# Altium footprint library EP3C25.PcbLib: 25 footprints (part 1 of 2)
Each footprint in its own frame and in the unit in brackets; x right, y up, seen from the top. Pads: shape width x height; smd on the part's side, far side on the other; paste and mask are expansions set on the pad; w line width, h text height; cw(c..) or ccw(c..) is an arc to the next point about the centre after c.
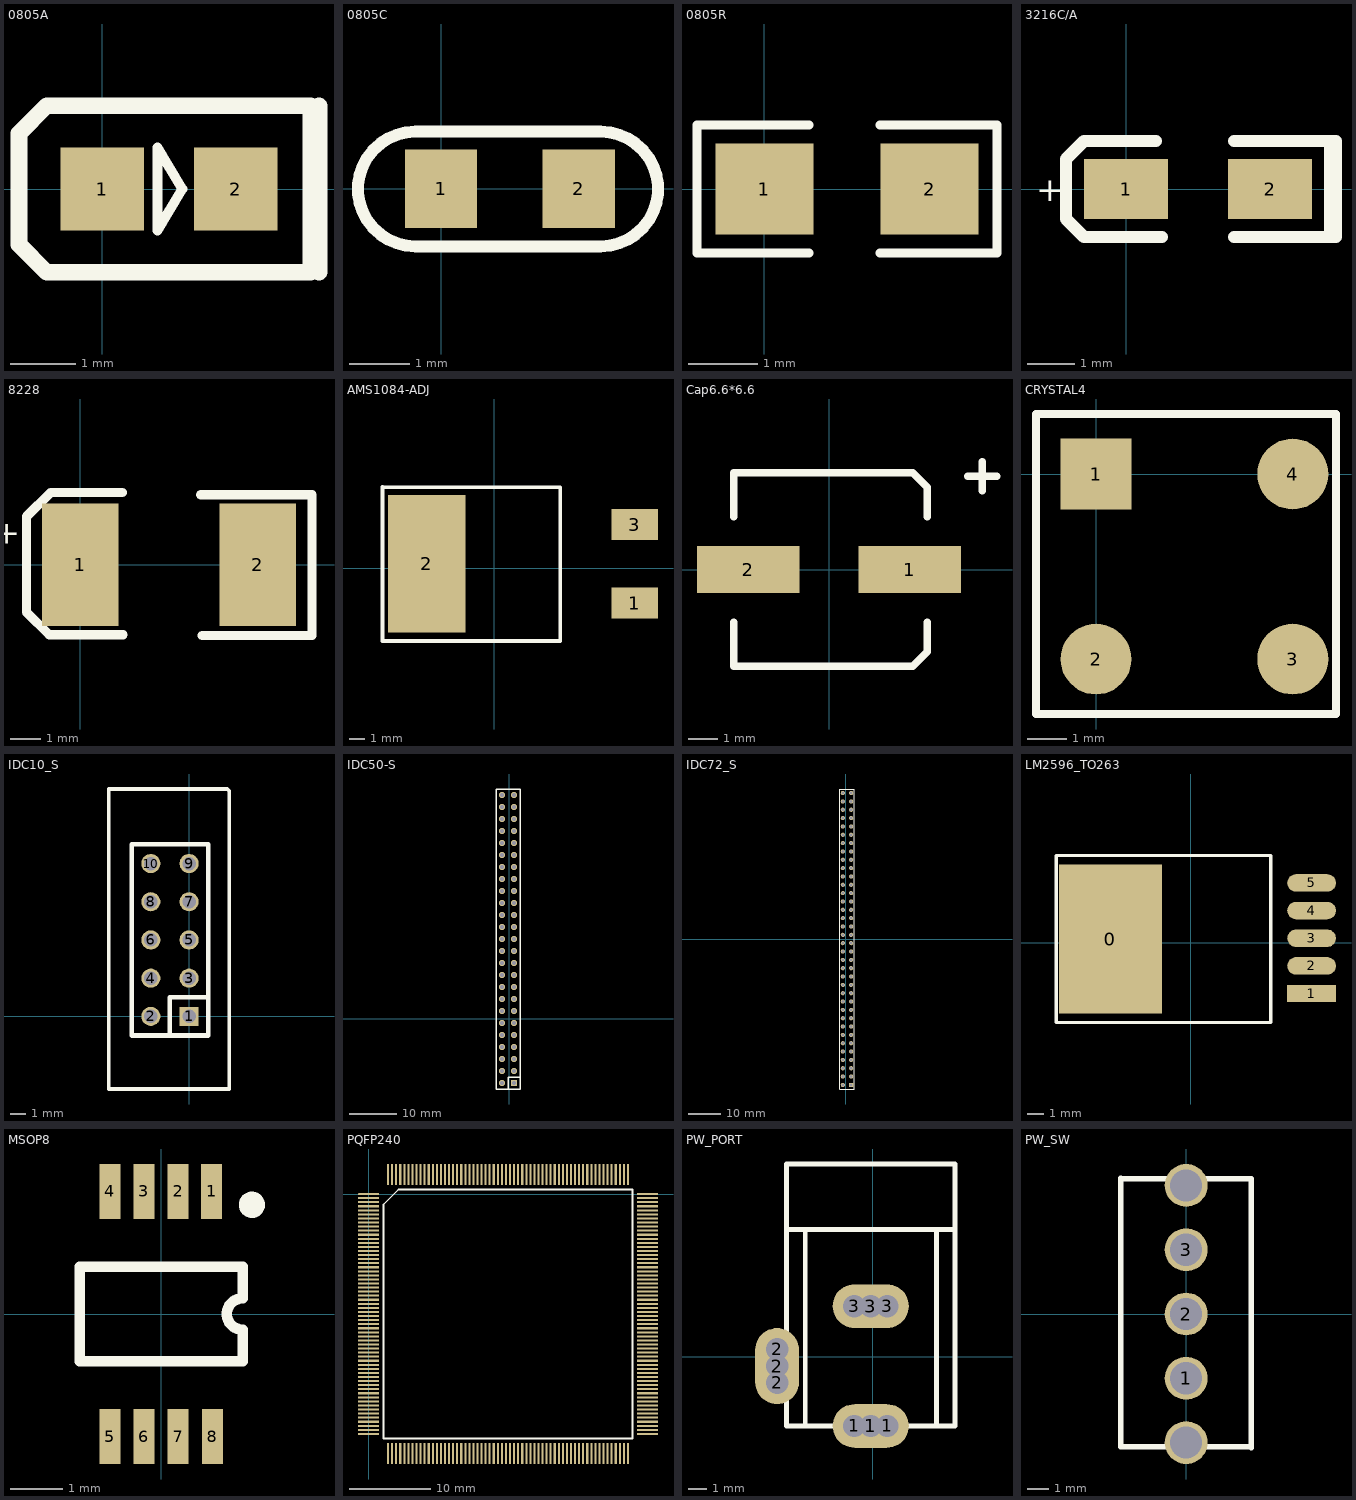
[diagram p0: the footprints below, top view; thin cyan lines are the x and y axes]

## 0805A [mil]
pads (2):
  rect 50x50 smd: 1(0,0) 2(80,0)
Top Overlay:
  lines w5.91: 33,-25 33,25 48,0 33,-25
  lines w10: 130,-50 130,0 130,50 ; -50,-33.33 -50,33.33 -33.33,50 125,50 125,-50 -33.33,-50 -50,-33.33

## 0805C [mm]
pads (2):
  rect 1.2x1.3 smd: 1(0,0) 2(2.286,0)
Top Overlay:
  lines w0.2: -0.428,-0.953 cw(c-0.428,-0.003) -0.428,0.947 2.647,0.947 cw(c2.647,-0.003) 2.647,-0.953 -0.428,-0.953

## 0805R [mm]
height 0.051
pads (2):
  rect 1.4x1.3 smd: 1(0,0) 2(2.362,0)
Top Overlay:
  lines w0.127: 0.635,-0.914 -0.965,-0.914 -0.965,0.914 0.635,0.914 ; 1.651,-0.914 3.327,-0.914 3.327,0.914 1.651,0.914

## 3216C/A [mm] "钽电容封装A"
pads (2):
  rect 1.78x1.27 smd: 1(0,0) 2(3.05,0)
Top Overlay:
  lines w0.254: 0.635,1.016 -0.889,1.016 -1.27,0.635 -1.27,-0.635 -0.889,-1.016 0.762,-1.016 ; 2.286,-1.016 4.445,-1.016 4.445,1.016 2.286,1.016 ; 4.318,-1.016 4.318,1.016
  text "+" at -1.905,-0.254 h0.51

## 8228 [mm]
pads (2):
  rect 2.5x4 smd: 1(0,0) 2(5.8,0)
Top Overlay:
  lines w0.305: 1.372,2.362 -0.965,2.362 -1.753,1.575 -1.753,-1.549 -1.016,-2.286 1.397,-2.286 ; 3.937,2.286 7.569,2.286 7.569,-2.311 3.988,-2.311
  text "+" at -1.956,1.321 h0.76

## AMS1084-ADJ [mil]
pads (3):
  rect 118.11x78.74 smd: 1(358,-89) 3(358,111)
  rect 196.85x350.85 smd: 2(-172,11)
Top Overlay:
  lines w10: -285,-186 -175,-186 168,-186 168,205 ; -285,-185 -285,207 ; -285,206 -175,206 167,206

## Cap6.6*6.6 [mm]
pads (2):
  rect 3.5x1.6 smd: 1(2.75,0) 2(-2.75,0)
Top Overlay:
  lines w0.254: -3.25,-1.8 -3.25,-3.3 2.85,-3.3 3.35,-2.8 3.35,-1.8 ; -3.25,1.8 -3.25,3.3 2.85,3.3 3.35,2.8 3.35,1.8 ; 4.726,3.177 5.726,3.177 ; 5.226,2.677 5.226,3.677

## CRYSTAL4 [mm]
pads (4):
  rect 1.8x1.8 smd: 1(0,0)
  round 1.8 smd: 2(0,-4.7) 3(5,-4.7) 4(5,0)
Top Overlay:
  lines w0.203: -1.524,-6.096 6.096,-6.096 6.096,1.524 -1.524,1.524 -1.524,-6.096

## IDC10_S [mm]
pads (10):
  rect 1.27x1.27 hole 0.9: 1(0,0)
  round 1.27 hole 0.9: 2(-2.54,0) 3(0,2.54) 4(-2.54,2.54) 5(0,5.08) 6(-2.54,5.08) 7(0,7.62) 8(-2.54,7.62) 9(0,10.16) 10(-2.54,10.16)
Top Overlay:
  lines w0.254: -5.334,-4.826 -5.334,15.113 2.54,15.113 2.667,14.986 2.667,-4.826 -5.334,-4.826
  lines w0.305: -1.27,-1.27 -1.27,1.27 1.27,1.27 ; -3.81,-1.27 -3.81,11.43 1.27,11.43 1.27,-1.27 -3.81,-1.27

## IDC50-S [mil]
pads (50):
  rect 50x50 hole 35.43: 1(38,-536)
  round 50 hole 35.43: 2(-62,-536) 3(38,-436) 4(-62,-436) 5(38,-336) 6(-62,-336) 7(38,-236) 8(-62,-236) 9(38,-136) 10(-62,-136) 11(38,-36) 12(-62,-36) 13(38,64) 14(-62,64) 15(38,164) 16(-62,164) 17(38,264) 18(-62,264) 19(38,364) 20(-62,364) 21(38,464) 22(-62,464) 23(38,564) 24(-62,564) 25(38,664) 26(-62,664) 27(38,764) 28(-62,764) 29(38,864) 30(-62,864) 31(38,964) 32(-62,964) 33(38,1064) 34(-62,1064) 35(38,1164) 36(-62,1164) 37(38,1264) 38(-62,1264) 39(38,1364) 40(-62,1364) 41(38,1464) 42(-62,1464) 43(38,1564) 44(-62,1564) 45(38,1664) 46(-62,1664) 47(38,1764) 48(-62,1764) 49(38,1864) 50(-62,1864)
Top Overlay:
  lines w12: -12,-586 -12,-486 88,-486 ; -112,-586 88,-586 88,1914 -112,1914 -112,-586

## IDC72_S [mil]
pads (72):
  rect 50x50 hole 35.43: 1(66,-1746)
  round 50 hole 35.43: 2(-34,-1746) 3(66,-1646) 4(-34,-1646) 5(66,-1546) 6(-34,-1546) 7(66,-1446) 8(-34,-1446) 9(66,-1346) 10(-34,-1346) 11(66,-1246) 12(-34,-1246) 13(66,-1146) 14(-34,-1146) 15(66,-1046) 16(-34,-1046) 17(66,-946) 18(-34,-946) 19(66,-846) 20(-34,-846) 21(66,-746) 22(-34,-746) 23(66,-646) 24(-34,-646) 25(66,-546) 26(-34,-546) 27(66,-446) 28(-34,-446) 29(66,-346) 30(-34,-346) 31(66,-246) 32(-34,-246) 33(66,-146) 34(-34,-146) 35(66,-46) 36(-34,-46) 37(66,54) 38(-34,54) 39(66,154) 40(-34,154) 41(66,254) 42(-34,254) 43(66,354) 44(-34,354) 45(66,454) 46(-34,454) 47(66,554) 48(-34,554) 49(66,654) 50(-34,654) 51(66,754) 52(-34,754) 53(66,854) 54(-34,854) 55(66,954) 56(-34,954) 57(66,1054) 58(-34,1054) 59(66,1154) 60(-34,1154) 61(66,1254) 62(-34,1254) 63(66,1354) 64(-34,1354) 65(66,1454) 66(-34,1454) 67(66,1554) 68(-34,1554) 69(66,1654) 70(-34,1654) 71(66,1754) 72(-34,1754)
Top Overlay:
  lines w8: -72,-1795 104,-1795 104,703 104,1803 -72,1803 -72,703 -72,-1795

## LM2596_TO263 [mm]
pads (6):
  rect 6.35x9.16 smd: 0(-4.928,0.229)
  rect 3x1.07 smd: 1(7.442,-3.124)
  oval 3x1.07 smd: 2(7.442,-1.424) 3(7.442,0.276) 4(7.442,1.976) 5(7.442,3.676)
Top Overlay:
  lines w0.203: -8.255,-4.902 -8.255,5.359 4.928,5.359 4.928,-4.902 -8.255,-4.902

## MSOP8 [mm] "EP3核心板专用 引脚短版"
pads (8):
  rect 0.4x1.042 smd: 1(0.96,2.329) 2(0.325,2.329) 3(-0.325,2.329) 4(-0.975,2.329) 5(-0.975,-2.329) 6(-0.325,-2.329) 7(0.325,-2.329) 8(0.975,-2.329)
Top Overlay:
  circle w0.25: c1.725,2.075 r0.125
  lines w0.2: -1.55,-0.9 -1.55,0.9 1.55,0.9 1.55,0.3 ccw(c1.55,0) 1.55,-0.3 1.55,-0.9 -1.55,-0.9

## PQFP240 [mm]
pads (240):
  oval 2.6x0.254 smd: 1(0,0)
  rect 2.6x0.254 smd: 2(0,-0.5) 3(0,-1) 4(0,-1.5) 5(0,-2) 6(0,-2.5) 7(0,-3) 8(0,-3.5) 9(0,-4) 10(0,-4.5) 11(0,-5) 12(0,-5.5) 13(0,-6) 14(0,-6.5) 15(0,-7) 16(0,-7.5) 17(0,-8) 18(0,-8.5) 19(0,-9) 20(0,-9.5) 21(0,-10) 22(0,-10.5) 23(0,-11) 24(0,-11.5) 25(0,-12) 26(0,-12.5) 27(0,-13) 28(0,-13.5) 29(0,-14) 30(0,-14.5) 31(0,-15) 32(0,-15.5) 33(0,-16) 34(0,-16.5) 35(0,-17) 36(0,-17.5) 37(0,-18) 38(0,-18.5) 39(0,-19) 40(0,-19.5) 41(0,-20) 42(0,-20.5) 43(0,-21) 44(0,-21.5) 45(0,-22) 46(0,-22.5) 47(0,-23) 48(0,-23.5) 49(0,-24) 50(0,-24.5) 51(0,-25) 52(0,-25.5) 53(0,-26) 54(0,-26.5) 55(0,-27) 56(0,-27.5) 57(0,-28) 58(0,-28.5) 59(0,-29) 60(0,-29.5) 121(34.3,-29.5) 122(34.3,-29) 123(34.3,-28.5) 124(34.3,-28) 125(34.3,-27.5) 126(34.3,-27) 127(34.3,-26.5) 128(34.3,-26) 129(34.3,-25.5) 130(34.3,-25) 131(34.3,-24.5) 132(34.3,-24) 133(34.3,-23.5) 134(34.3,-23) 135(34.3,-22.5) 136(34.3,-22) 137(34.3,-21.5) 138(34.3,-21) 139(34.3,-20.5) 140(34.3,-20) 141(34.3,-19.5) 142(34.3,-19) 143(34.3,-18.5) 144(34.3,-18) 145(34.3,-17.5) 146(34.3,-17) 147(34.3,-16.5) 148(34.3,-16) 149(34.3,-15.5) 150(34.3,-15) 151(34.3,-14.5) 152(34.3,-14) 153(34.3,-13.5) 154(34.3,-13) 155(34.3,-12.5) 156(34.3,-12) 157(34.3,-11.5) 158(34.3,-11) 159(34.3,-10.5) 160(34.3,-10) 161(34.3,-9.5) 162(34.3,-9) 163(34.3,-8.5) 164(34.3,-8) 165(34.3,-7.5) 166(34.3,-7) 167(34.3,-6.5) 168(34.3,-6) 169(34.3,-5.5) 170(34.3,-5) 171(34.3,-4.5) 172(34.3,-4) 173(34.3,-3.5) 174(34.3,-3) 175(34.3,-2.5) 176(34.3,-2) 177(34.3,-1.5) 178(34.3,-1) 179(34.3,-0.5) 180(34.3,0)
  rect 0.254x2.6 smd: 61(2.4,-31.9) 62(2.9,-31.9) 63(3.4,-31.9) 64(3.9,-31.9) 65(4.4,-31.9) 66(4.9,-31.9) 67(5.4,-31.9) 68(5.9,-31.9) 69(6.4,-31.9) 70(6.9,-31.9) 71(7.4,-31.9) 72(7.9,-31.9) 73(8.4,-31.9) 74(8.9,-31.9) 75(9.4,-31.9) 76(9.9,-31.9) 77(10.4,-31.9) 78(10.9,-31.9) 79(11.4,-31.9) 80(11.9,-31.9) 81(12.4,-31.9) 82(12.9,-31.9) 83(13.4,-31.9) 84(13.9,-31.9) 85(14.4,-31.9) 86(14.9,-31.9) 87(15.4,-31.9) 88(15.9,-31.9) 89(16.4,-31.9) 90(16.9,-31.9) 91(17.4,-31.9) 92(17.9,-31.9) 93(18.4,-31.9) 94(18.9,-31.9) 95(19.4,-31.9) 96(19.9,-31.9) 97(20.4,-31.9) 98(20.9,-31.9) 99(21.4,-31.9) 100(21.9,-31.9) 101(22.4,-31.9) 102(22.9,-31.9) 103(23.4,-31.9) 104(23.9,-31.9) 105(24.4,-31.9) 106(24.9,-31.9) 107(25.4,-31.9) 108(25.9,-31.9) 109(26.4,-31.9) 110(26.9,-31.9) 111(27.4,-31.9) 112(27.9,-31.9) 113(28.4,-31.9) 114(28.9,-31.9) 115(29.4,-31.9) 116(29.9,-31.9) 117(30.4,-31.9) 118(30.9,-31.9) 119(31.4,-31.9) 120(31.9,-31.9) 181(31.9,2.4) 182(31.4,2.4) 183(30.9,2.4) 184(30.4,2.4) 185(29.9,2.4) 186(29.4,2.4) 187(28.9,2.4) 188(28.4,2.4) 189(27.9,2.4) 190(27.4,2.4) 191(26.9,2.4) 192(26.4,2.4) 193(25.9,2.4) 194(25.4,2.4) 195(24.9,2.4) 196(24.4,2.4) 197(23.9,2.4) 198(23.4,2.4) 199(22.9,2.4) 200(22.4,2.4) 201(21.9,2.4) 202(21.4,2.4) 203(20.9,2.4) 204(20.4,2.4) 205(19.9,2.4) 206(19.4,2.4) 207(18.9,2.4) 208(18.4,2.4) 209(17.9,2.4) 210(17.4,2.4) 211(16.9,2.4) 212(16.4,2.4) 213(15.9,2.4) 214(15.4,2.4) 215(14.9,2.4) 216(14.4,2.4) 217(13.9,2.4) 218(13.4,2.4) 219(12.9,2.4) 220(12.4,2.4) 221(11.9,2.4) 222(11.4,2.4) 223(10.9,2.4) 224(10.4,2.4) 225(9.9,2.4) 226(9.4,2.4) 227(8.9,2.4) 228(8.4,2.4) 229(7.9,2.4) 230(7.4,2.4) 231(6.9,2.4) 232(6.4,2.4) 233(5.9,2.4) 234(5.4,2.4) 235(4.9,2.4) 236(4.4,2.4) 237(3.9,2.4) 238(3.4,2.4) 239(2.9,2.4) 240(2.4,2.4)
Top Overlay:
  lines w0.2: 1.835,-30.065 1.835,-1.27 3.67,0.565 32.465,0.565 32.465,-30.065 1.835,-30.065

## PW_PORT [mil]
pads (9):
  round 47 hole 47: 1(-39,-146) 1(31,-146) 2(-201,-55) 2(-201,15) 3(-39,106) 3(31,106)
  oval 160x92 hole 47: 1(-4,-146) 3(-4,106)
  oval 92x160 hole 47: 2(-201,-20)
Top Overlay:
  lines w10: -181,267 173,267 ; -142,-146 -142,267 ; 134,-146 134,267 ; -181,-146 -181,405 173,405 173,-146 -181,-146

## PW_SW [mm]
pads (5):
  round 2 hole 1.5: 1(0,-3) 2(0,0) 3(0,3) ""(0,-6) ""(0,6)
Top Overlay:
  lines w0.254: -3.06,-6.198 3.011,-6.198 ; -3.043,-6.164 -3.043,6.333 ; -3.043,6.316 3.028,6.316 ; 3.045,-6.232 3.045,6.265